# Altium footprint library SJ-3566AN.PcbLib: 2 footprints
Each footprint in its own frame and in the unit in brackets; x right, y up, seen from the top. Pads: shape width x height; smd on the part's side, far side on the other; paste and mask are expansions set on the pad; w line width, h text height; cw(c..) or ccw(c..) is an arc to the next point about the centre after c.
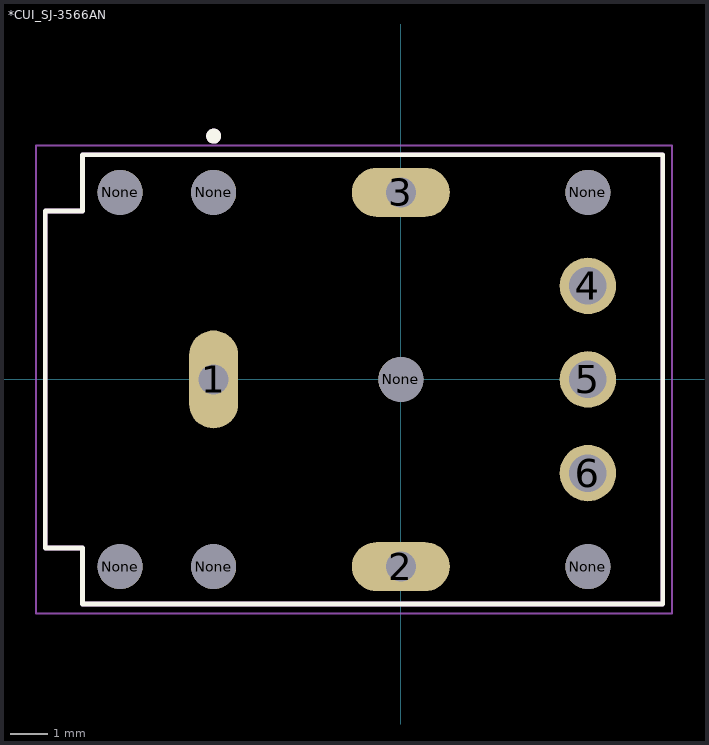
[diagram p0: the footprints below, top view; thin cyan lines are the x and y axes]

## *CUI_SJ-3566AN [mm]
pads (13):
  oval 1.308x2.616 hole 0.8: 1(-5,0)
  oval 2.616x1.308 hole 0.8: 2(0,-5) 3(0,5)
  round 1.508 hole 1: 4(5,2.5) 5(5,0) 6(5,-2.5)
  round 1.2 hole 1.2 unplated: None(-7.5,-5) None(-7.5,5) None(-5,-5) None(-5,5) None(0,0) None(5,-5) None(5,5)
Top Overlay:
  circle w0.2: c-5,6.5 r0.1
  lines w0.127: -9.5,-4.5 -8.5,-4.5 -8.5,-6 7,-6 7,6 -8.5,6 -8.5,4.5 -9.5,4.5 -9.5,-4.5
Mechanical 1:
  lines w0: -5.4,-0.75 -5.4,0.75 -4.6,0.75 -4.6,-0.75 -5.4,-0.75 ; -0.75,-5.4 -0.75,-4.6 0.75,-4.6 0.75,-5.4 -0.75,-5.4 ; -0.75,4.6 -0.75,5.4 0.75,5.4 0.75,4.6 -0.75,4.6
Mechanical 4:
  circle w0.2: c-5,6.5 r0.1
  circle w0.2: c-5,6.5 r0.1
  lines w0.127: -9.5,-4.5 -9.5,4.5 ; -9.5,-4.5 -8.5,-4.5 ; -9.5,-4.5 -9.5,4.5 ; -9.5,-4.5 -8.5,-4.5 ; -9.5,4.5 -8.5,4.5 ; -9.5,4.5 -8.5,4.5 ; -8.5,-6 -8.5,-4.5 ; -8.5,-6 7,-6 ; -8.5,-6 -8.5,-4.5 ; -8.5,-6 7,-6 ; -8.5,4.5 -8.5,6 ; -8.5,4.5 -8.5,6 ; -8.5,6 7,6 ; -8.5,6 7,6 ; 7,-6 7,6 ; 7,-6 7,6
Mechanical 16:
  lines w0.05: -9.75,-6.25 -9.75,6.25 7.25,6.25 7.25,-6.25 -9.75,-6.25

## PCBComponent_1 [mm]